# EAGLE library part MPU6050 (library mpu6050_pac)
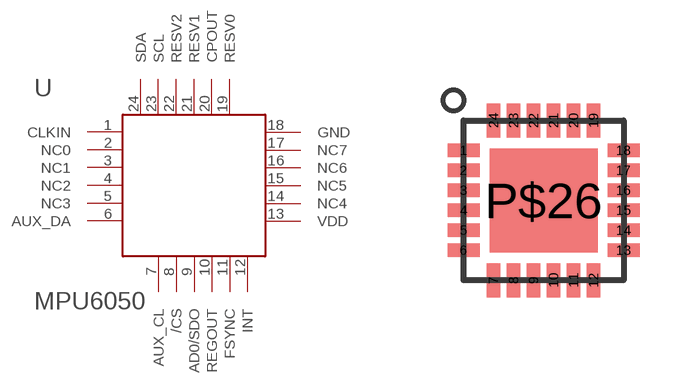
[diagram p0: symbol with the pads of MPU6050; footprint MPU6050]

Designator prefix -

## MPU6050  [MPU6050]
1  CLKIN
2  NC0
3  NC1
4  NC2
5  NC3
6  AUX_DA
7  AUX_CL
8  /CS
9  AD0/SDO
10  REGOUT
11  FSYNC
12  INT
13  VDD
14  NC4
15  NC5
16  NC6
17  NC7
18  GND
19  RESV0
20  CPOUT
21  RESV1
22  RESV2
23  SCL
24  SDA

## Footprint MPU6050 (pad centres in mm)
smd 0.8 x 0.34: 1 0,0; 2 0,-0.5; 3 0,-1; 4 0,-1.5; 5 0,-2; 6 0,-2.5; 13 4,-2.5; 14 4,-2; 15 4,-1.5; 16 4,-1; 17 4,-0.5; 18 4,0
smd 0.34 x 0.85: 7 0.75,-3.25; 8 1.25,-3.25; 9 1.75,-3.25; 10 2.25,-3.25; 11 2.75,-3.25; 12 3.25,-3.25; 19 3.25,0.75; 20 2.75,0.75; 21 2.25,0.75; 22 1.75,0.75; 23 1.25,0.75; 24 0.75,0.75
smd 2.7 x 2.6: P$26 2,-1.25